# EAGLE library part TW9920 (library intersil-techwell)
TW9920 – Analog Video Decoder / Encoder Auto generated by make-symbol-device-package-bsdl.ulp Rev. 43 Source: www.intersil.com / TW9920_FN7775.pdf
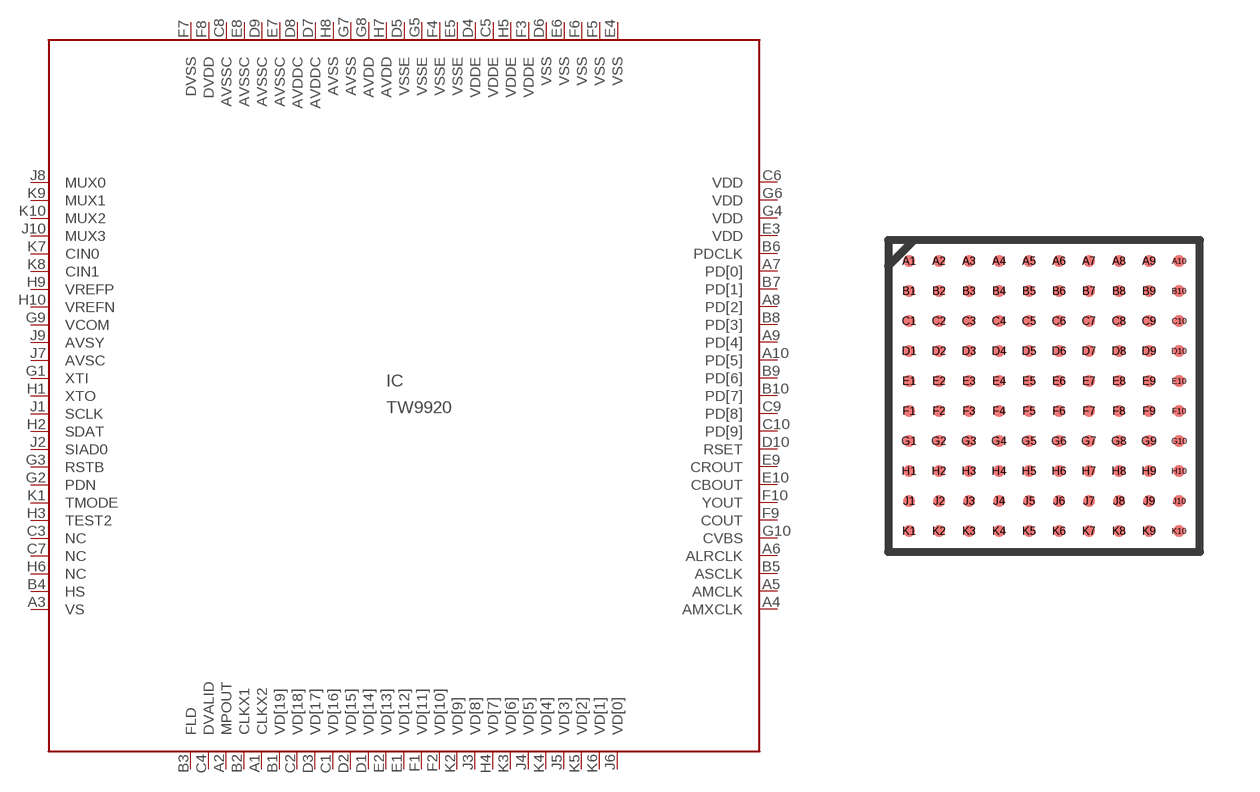
[diagram p0: symbol with the pads of VFBGA100L-8X8; footprint VFBGA100L-8X8]

Designator prefix IC

## TW9920  [VFBGA100L-8X8]
A1  CLKX2  out
A2  MPOUT  out
A3  VS  out
A4  AMXCLK  in
A5  AMCLK  out
A6  ALRCLK  out
A7  PD[0]  in
A8  PD[2]  in
A9  PD[4]  in
A10  PD[5]  in
B1  VD[19]  out
B2  CLKX1  out
B3  FLD  out
B4  HS  out
B5  ASCLK  out
B6  PDCLK  in
B7  PD[1]  in
B8  PD[3]  in
B9  PD[6]  in
B10  PD[7]  in
C1  VD[16]  out
C2  VD[18]  out
C3  NC  nc
C4  DVALID  out
C5  VDDE  pwr
C6  VDD  pwr
C7  NC  nc
C8  AVSSC  pwr
C9  PD[8]  in
C10  PD[9]  in
D1  VD[14]  out
D2  VD[15]  out
D3  VD[17]  out
D4  VDDE  pwr
D5  VSSE  pwr
D6  VSS  pwr
D7  AVDDC  pwr
D8  AVDDC  pwr
D9  AVSSC  pwr
D10  RSET  in
E1  VD[12]  out
E2  VD[13]  out
E3  VDD  pwr
E4  VSS  pwr
E5  VSSE  pwr
E6  VSS  pwr
E7  AVSSC  pwr
E8  AVSSC  pwr
E9  CROUT  out
E10  CBOUT  out
F1  VD[11]  out
F2  VD[10]  out
F3  VDDE  pwr
F4  VSSE  pwr
F5  VSS  pwr
F6  VSS  pwr
F7  DVSS  pwr
F8  DVDD  pwr
F9  COUT  out
F10  YOUT  out
G1  XTI  in
G2  PDN  in
G3  RSTB  in
G4  VDD  pwr
G5  VSSE  pwr
G6  VDD  pwr
G7  AVSS  pwr
G8  AVDD  pwr
G9  VCOM  out
G10  CVBS  out
H1  XTO  out
H2  SDAT
H3  TEST2  pas
H4  VD[7]
H5  VDDE  pwr
H6  NC  nc
H7  AVDD  pwr
H8  AVSS  pwr
H9  VREFP  out
H10  VREFN  out
J1  SCLK  in
J2  SIAD0  in
J3  VD[8]
J4  VD[5]
J5  VD[3]
J6  VD[0]
J7  AVSC  in
J8  MUX0  in
J9  AVSY  in
J10  MUX3  in
K1  TMODE  in
K2  VD[9]
K3  VD[6]
K4  VD[4]
K5  VD[2]
K6  VD[1]
K7  CIN0  in
K8  CIN1  in
K9  MUX1  in
K10  MUX2  in

## Footprint VFBGA100L-8X8 (pad centres in mm)
100L VFBGA Package Mechanical Drawing: Package Size: 8x8x1.0 mm Auto generated by make-symbol-device-package-bsdl.ulp Rev. 43 Source: Source: www.intersil.com / TW9920_FN7775.pdf
smd 0.3 x 0.3: A1 -3.375,3.375; A2 -2.625,3.375; A3 -1.875,3.375; A4 -1.125,3.375; A5 -0.375,3.375; A6 0.375,3.375; A7 1.125,3.375; A8 1.875,3.375; A9 2.625,3.375; A10 3.375,3.375; B1 -3.375,2.625; B2 -2.625,2.625; B3 -1.875,2.625; B4 -1.125,2.625; B5 -0.375,2.625; B6 0.375,2.625; B7 1.125,2.625; B8 1.875,2.625; B9 2.625,2.625; B10 3.375,2.625; C1 -3.375,1.875; C2 -2.625,1.875; C3 -1.875,1.875; C4 -1.125,1.875; C5 -0.375,1.875; C6 0.375,1.875; C7 1.125,1.875; C8 1.875,1.875; C9 2.625,1.875; C10 3.375,1.875; D1 -3.375,1.125; D2 -2.625,1.125; D3 -1.875,1.125; D4 -1.125,1.125; D5 -0.375,1.125; D6 0.375,1.125; D7 1.125,1.125; D8 1.875,1.125; D9 2.625,1.125; D10 3.375,1.125; E1 -3.375,0.375; E2 -2.625,0.375; E3 -1.875,0.375; E4 -1.125,0.375; E5 -0.375,0.375; E6 0.375,0.375; E7 1.125,0.375; E8 1.875,0.375; E9 2.625,0.375; E10 3.375,0.375; F1 -3.375,-0.375; F2 -2.625,-0.375; F3 -1.875,-0.375; F4 -1.125,-0.375; F5 -0.375,-0.375; F6 0.375,-0.375; F7 1.125,-0.375; F8 1.875,-0.375; F9 2.625,-0.375; F10 3.375,-0.375; G1 -3.375,-1.125; G2 -2.625,-1.125; G3 -1.875,-1.125; G4 -1.125,-1.125; G5 -0.375,-1.125; G6 0.375,-1.125; G7 1.125,-1.125; G8 1.875,-1.125; G9 2.625,-1.125; G10 3.375,-1.125; H1 -3.375,-1.875; H2 -2.625,-1.875; H3 -1.875,-1.875; H4 -1.125,-1.875; H5 -0.375,-1.875; H6 0.375,-1.875; H7 1.125,-1.875; H8 1.875,-1.875; H9 2.625,-1.875; H10 3.375,-1.875; J1 -3.375,-2.625; J2 -2.625,-2.625; J3 -1.875,-2.625; J4 -1.125,-2.625; J5 -0.375,-2.625; J6 0.375,-2.625; J7 1.125,-2.625; J8 1.875,-2.625; J9 2.625,-2.625; J10 3.375,-2.625; K1 -3.375,-3.375; K2 -2.625,-3.375; K3 -1.875,-3.375; K4 -1.125,-3.375; K5 -0.375,-3.375; K6 0.375,-3.375; K7 1.125,-3.375; K8 1.875,-3.375; K9 2.625,-3.375; K10 3.375,-3.375